# Altium schematic symbol library RES,22k1,1%,0.25W,Axial,Thru.Schlib: 1 symbol
Pins are listed as number, name and electrical type; pins without a type are passive.

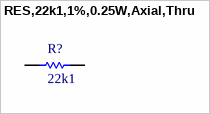
[diagram p0: symbol RES,22k1,1%,0.25W,Axial,Thru]

## RES,22k1,1%,0.25W,Axial,Thru
designator R?, comment 22k1
22.1 kOhms ±1% 0.25W, 1/4W Through Hole Resistor Axial  Metal Film
pins: 1, 2